# Altium footprint library Cuk_3ph_control1.PcbLib: 32 footprints (part 2 of 2)
Each footprint in its own frame and in the unit in brackets; x right, y up, seen from the top. Pads: shape width x height; smd on the part's side, far side on the other; paste and mask are expansions set on the pad; w line width, h text height; cw(c..) or ccw(c..) is an arc to the next point about the centre after c.
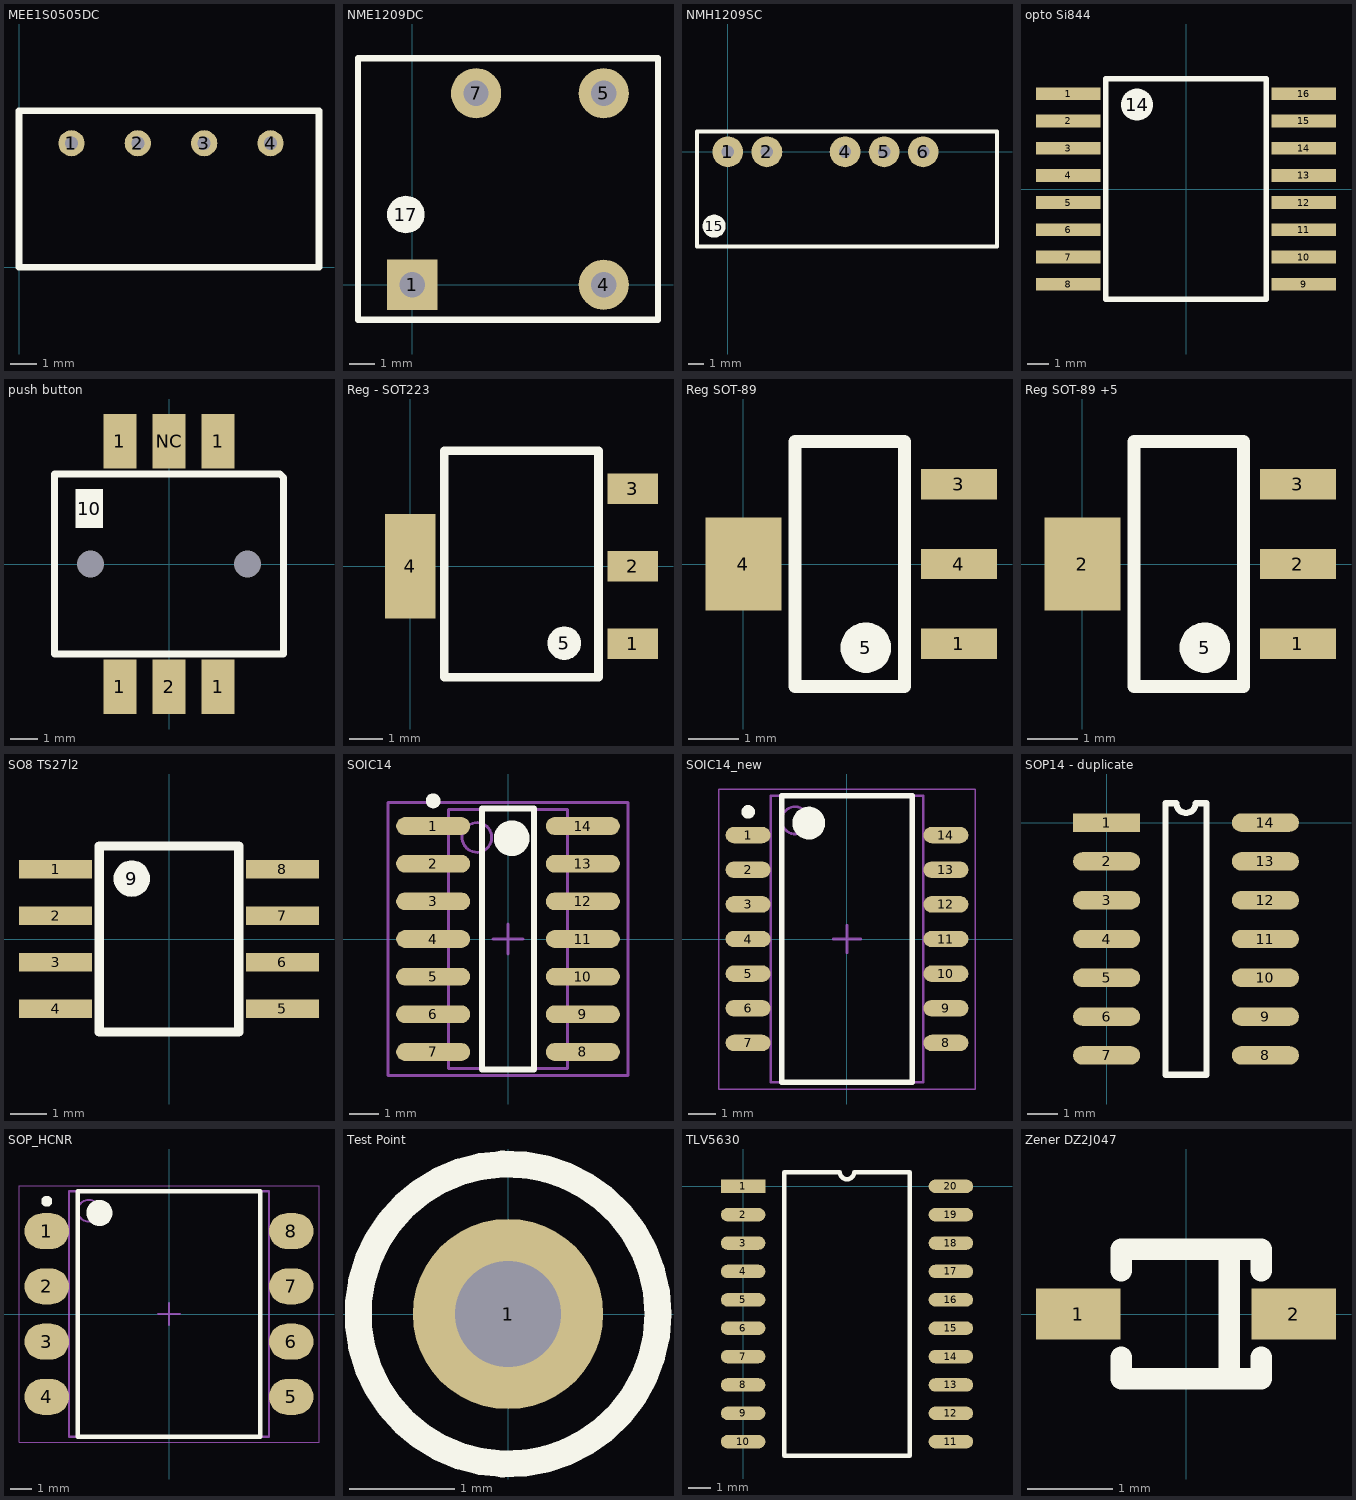
[diagram p1: the footprints below, top view; thin cyan lines are the x and y axes]

## MEE1S0505DC [mm]
pads (4):
  round 1 hole 0.5: 1(2.007,4.75) 2(4.547,4.75) 3(7.087,4.75) 4(9.627,4.75)
Top Overlay:
  lines w0.254: 0,0 0,6 11.48,6 11.48,0 0,0

## NME1209DC [mm]
height 10
pads (5):
  rect 2x2 hole 1: 1(0,0)
  round 2 hole 1: 4(7.62,0) 5(7.62,7.62) 7(2.54,7.62)
  round 1.5 on Top Overlay: 17(-0.254,2.794)
Top Overlay:
  lines w0.254: -2.159,-1.397 9.779,-1.397 9.779,9.017 -2.159,9.017 -2.159,-1.397

## NMH1209SC [mm]
height 10
pads (6):
  round 2 hole 0.8: 1(0,0) 2(2.54,0) 4(7.62,0) 5(10.16,0) 6(12.7,0)
  round 1.5 on Top Overlay: 15(-0.889,-4.826)
Top Overlay:
  lines w0.254: -2.003,-6.163 17.497,-6.163 17.497,1.337 -2.003,1.337 -2.003,-6.163

## opto Si844 [mm]
height 2.65
pads (17):
  rect 3x0.6 smd: 1(-5.5,4.445) 2(-5.5,3.175) 3(-5.5,1.905) 4(-5.5,0.635) 5(-5.5,-0.635) 6(-5.5,-1.905) 7(-5.5,-3.175) 8(-5.5,-4.445) 9(5.5,-4.445) 10(5.5,-3.175) 11(5.5,-1.905) 12(5.5,-0.635) 13(5.5,0.635) 14(5.5,1.905) 15(5.5,3.175) 16(5.5,4.445)
  round 1.5 on Top Overlay: 14(-2.286,3.937)
Top Overlay:
  lines w0.254: -3.75,-5.15 3.75,-5.15 3.75,5.15 -3.75,5.15 -3.75,-5.15

## push button [mm]
height 5
pads (9):
  rect 1.2x2 smd: 1(-1.8,-4.5) 1(-1.8,4.5) 1(1.8,-4.5) 1(1.8,4.5) 2(0,-4.5) NC(0,4.5)
  rect 1x1.42 on Top Overlay: 10(-2.921,2.032)
  round 0 hole 1: NC(-2.875,0) NC(2.875,0)
Top Overlay:
  lines w0.254: -4.191,-3.302 -4.191,3.302 4.064,3.302 4.159,3.207 4.191,3.175 4.191,-3.302 -4.191,-3.302

## Reg - SOT223 [mm]
pads (5):
  rect 1.5x0.9 smd: 1(6.604,-2.3) 2(6.604,0) 3(6.604,2.3)
  rect 1.5x3.1 smd: 4(0,0)
  round 1 on Top Overlay: 5(4.572,-2.286)
Top Overlay:
  lines w0.254: 1.016,-3.302 1.016,3.429 5.588,3.429 5.588,-3.302 1.016,-3.302

## Reg SOT-89 [mm]
pads (5):
  rect 1.5x0.6 smd: 1(4.25,-1.57) 3(4.25,1.57) 4(4.25,0)
  rect 1.5x1.83 smd: 4(0,0)
  round 1 on Top Overlay: 5(2.413,-1.651)
Top Overlay:
  lines w0.254: 1.016,-2.413 3.175,-2.413 3.175,2.413 1.016,2.413 1.016,-2.413

## Reg SOT-89 +5 [mm]
pads (5):
  rect 1.5x0.6 smd: 1(4.25,-1.57) 2(4.25,0) 3(4.25,1.57)
  rect 1.5x1.83 smd: 2(0,0)
  round 1 on Top Overlay: 5(2.413,-1.651)
Top Overlay:
  lines w0.254: 1.016,-2.413 3.175,-2.413 3.175,2.413 1.016,2.413 1.016,-2.413

## SO8 TS27l2 [mm]
pads (9):
  rect 2x0.5 smd: 1(-3.1,1.905) 2(-3.1,0.635) 3(-3.1,-0.635) 4(-3.1,-1.905) 5(3.1,-1.905) 6(3.1,-0.635) 7(3.1,0.635) 8(3.1,1.905)
  round 1 on Top Overlay: 9(-1.016,1.651)
Top Overlay:
  lines w0.254: -1.905,-2.54 1.905,-2.54 1.905,2.54 -1.905,2.54 -1.905,-2.54

## SOIC14 [mm]
pads (14):
  oval 2.5x0.6 smd: 1(-2.525,3.81) 2(-2.525,2.54) 3(-2.525,1.27) 4(-2.525,0) 5(-2.525,-1.27) 6(-2.525,-2.54) 7(-2.525,-3.81) 8(2.525,-3.81) 9(2.525,-2.54) 10(2.525,-1.27) 11(2.525,0) 12(2.525,1.27) 13(2.525,2.54) 14(2.525,3.81)
Top Overlay:
  circle w0.6: c0.125,3.4 r0.3
  circle w0.25: c-2.525,4.66 r0.125
  lines w0.2: -0.875,-4.4 0.875,-4.4 0.875,4.4 -0.875,4.4 -0.875,-4.4
Mechanical 13:
  circle w0.1: c-1.05,3.425 r0.5
  lines w0.1: -2,-4.375 2,-4.375 2,4.375 -2,4.375 -2,-4.375
Mechanical 15:
  lines w0.1: -0.5,0 0.5,0 ; 0,-0.5 0,0.5 ; -4.05,-4.6 4.05,-4.6 4.05,4.6 -4.05,4.6 -4.05,-4.6
3D body: height 1.75, standoff 0.1, extent -2,-4.375 2,4.375

## SOIC14_new [mm] "SOIC, 14-Leads, Body 10.20x5.30mm, Pitch 1.27mm, IPC Medium Density"
height 2
pads (14):
  oval 1.65x0.6 smd: 1(-3.625,3.81) 2(-3.625,2.54) 3(-3.625,1.27) 4(-3.625,0) 5(-3.625,-1.27) 6(-3.625,-2.54) 7(-3.625,-3.81) 8(3.625,-3.81) 9(3.625,-2.54) 10(3.625,-1.27) 11(3.625,0) 12(3.625,1.27) 13(3.625,2.54) 14(3.625,3.81)
Top Overlay:
  circle w0.25: c-3.625,4.66 r0.125
  circle w0.6: c-1.4,4.25 r0.3
  lines w0.2: -2.4,-5.25 -2.4,5.25 2.4,5.25 2.4,-5.25 -2.4,-5.25
Mechanical 13:
  circle w0.1: c-1.9,4.35 r0.5
  lines w0.1: -2.8,-5.25 -2.8,5.25 2.8,5.25 2.8,-5.25 -2.8,-5.25
Mechanical 15:
  lines w0.05: -4.7,-5.5 -4.7,5.5 4.7,5.5 4.7,-5.5 -4.7,-5.5
  lines w0.1: -0.5,0 0.5,0 ; 0,-0.5 0,0.5
3D body: height 2, standoff 0.15, extent -2.8,-5.25 2.8,5.25

## SOP14 - duplicate [mm]
pads (14):
  rect 2.2x0.6 smd: 1(0,0)
  oval 2.2x0.6 smd: 2(0,-1.27) 3(0,-2.54) 4(0,-3.81) 5(0,-5.08) 6(0,-6.35) 7(0,-7.62) 8(5.2,-7.62) 9(5.2,-6.35) 10(5.2,-5.08) 11(5.2,-3.81) 12(5.2,-2.54) 13(5.2,-1.27) 14(5.2,0)
Top Overlay:
  lines w0.2: 1.935,-8.255 3.265,-8.255 3.265,0.635 2.917,0.635 cw(c2.6,0.635) 2.282,0.635 1.935,0.635 1.935,-8.255

## SOP_HCNR [mm] "SOP, 8-Leads, Body 11.15x9.00mm, Pitch 2.54mm, IPC Medium Density"
height 4
pads (8):
  oval 2.05x1.65 smd: 1(-5.625,3.81) 2(-5.625,1.27) 3(-5.625,-1.27) 4(-5.625,-3.81) 5(5.625,-3.81) 6(5.625,-1.27) 7(5.625,1.27) 8(5.625,3.81)
Top Overlay:
  circle w0.25: c-5.625,5.185 r0.125
  circle w0.6: c-3.2,4.65 r0.3
  lines w0.2: -4.2,-5.65 -4.2,5.65 4.2,5.65 4.2,-5.65 -4.2,-5.65
Mechanical 13:
  circle w0.1: c-3.7,4.75 r0.5
  lines w0.1: -4.6,-5.65 -4.6,5.65 4.6,5.65 4.6,-5.65 -4.6,-5.65
Mechanical 15:
  lines w0.05: -6.9,-5.9 -6.9,5.9 6.9,5.9 6.9,-5.9 -6.9,-5.9
  lines w0.1: -0.5,0 0.5,0 ; 0,-0.5 0,0.5
3D body: height 4, standoff 0.5, extent -4.6,-5.65 4.6,5.65

## Test Point [mm]
pads (1):
  round 1.8 hole 1: 1(0,0)
Top Overlay:
  circle w0.254: c0,0 r1.42

## TLV5630 [mm]
pads (20):
  rect 2x0.6 smd: 1(0,0)
  oval 2x0.6 smd: 2(0,-1.27) 3(0,-2.54) 4(0,-3.81) 5(0,-5.08) 6(0,-6.35) 7(0,-7.62) 8(0,-8.89) 9(0,-10.16) 10(0,-11.43) 11(9.3,-11.43) 12(9.3,-10.16) 13(9.3,-8.89) 14(9.3,-7.62) 15(9.3,-6.35) 16(9.3,-5.08) 17(9.3,-3.81) 18(9.3,-2.54) 19(9.3,-1.27) 20(9.3,0)
Top Overlay:
  lines w0.2: 1.835,-12.065 1.835,0.635 4.332,0.635 ccw(c4.65,0.635) 4.967,0.635 7.465,0.635 7.465,-12.065 1.835,-12.065

## Zener DZ2J047 [mm]
height 0.7
pads (2):
  rect 1x0.6 smd: 1(-1.27,0) 2(1.27,0)
Top Overlay:
  lines w0.254: -0.762,-0.508 -0.762,-0.762 0.889,-0.762 0.889,-0.508 ; -0.762,0.508 -0.762,0.762 0.889,0.762 0.889,0.508 ; 0.508,-0.762 0.508,0.635